# EAGLE library part SF12011F-0202-20R-M-050 (library SF12011F-0202-20R-M-050)
Pushbutton Switches DPDT STOMP/FOOT SW MOM 4A30VDC 9PIN Source: Datasheet <https://componentsearchengine.com//SF12011F-0202-20R-M-050.pdf>
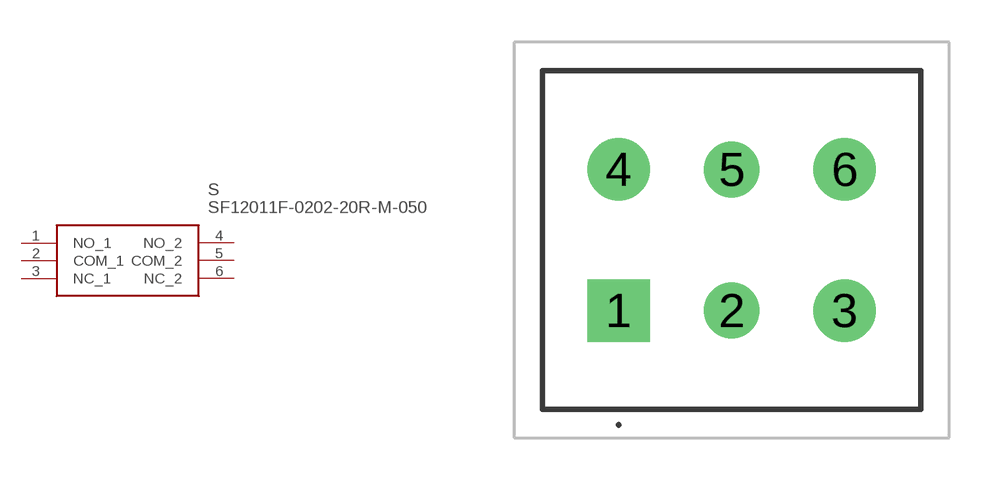
[diagram p0: symbol with the pads of SF12011F020220RM050; footprint SF12011F020220RM050]

Designator prefix S

## SF12011F-0202-20R-M-050 (Description: Pushbutton Switches DPDT STOMP/FOOT SW MOM 4A30VDC 9PIN; Height: 33.5mm; Manufacturer_Name: Alpha (Taiwan); Manufacturer_Part_Number: SF12011F-0202-20R-M-050; Mouser_Part_Number: 107-SF12011F-M; Mouser_Price-Stock: https://www.mouser.com/Search/Refine.aspx?Keyword=107-SF12011F-M)  [SF12011F020220RM050]
1  NO_1
2  COM_1
3  NC_1
4  NO_2
5  COM_2
6  NC_2

## Footprint SF12011F020220RM050 (pad centres in mm)
SF12011F-0202-20R-M-050-4
drill 1.48 pad 2.22 square: 1 0,0
drill 1.32 pad 1.98: 2 4,0; 5 4,5
drill 1.48 pad 2.22: 3 8,0; 4 0,5; 6 8,5